# EAGLE library part PIC24FJ1024GA606 (library ICs)
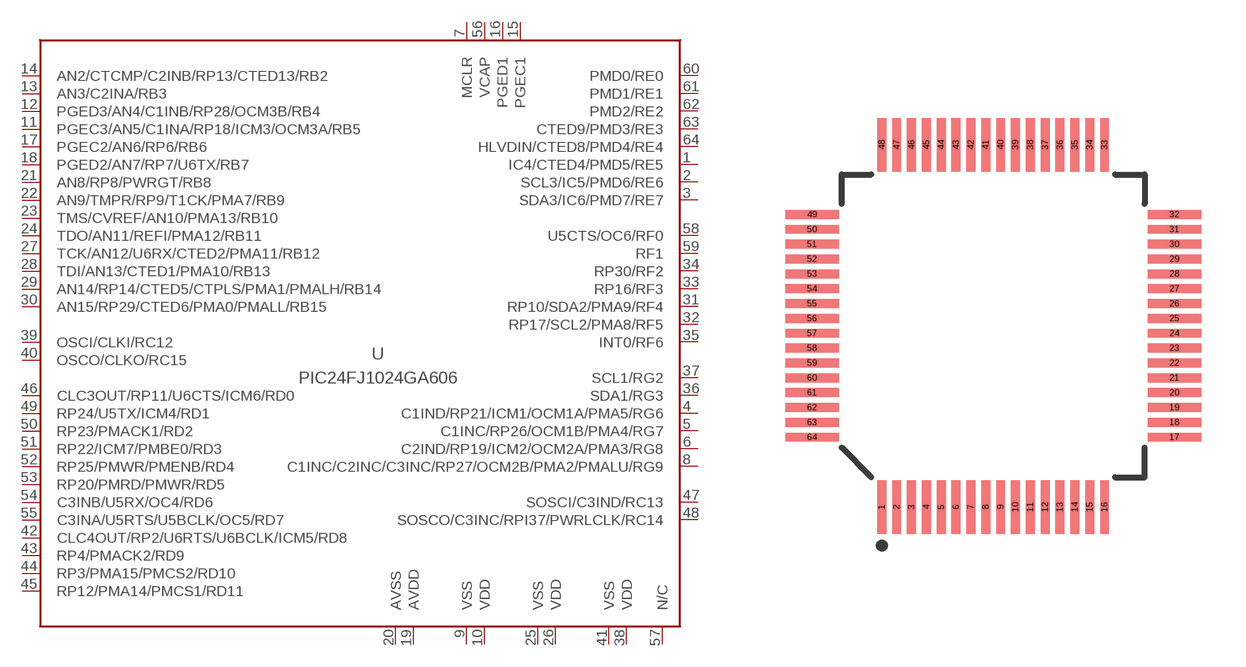
[diagram p8: symbol with the pads of TQFP64; footprint TQFP64]

Designator prefix U

## PIC24FJ1024GA606 (MFG: Microchip; PN: PIC24FJ1024GA606T-I/PT; VALUE: PIC24FJ1024GA606)  [TQFP64]
1  IC4/CTED4/PMD5/RE5
2  SCL3/IC5/PMD6/RE6
3  SDA3/IC6/PMD7/RE7
4  C1IND/RP21/ICM1/OCM1A/PMA5/RG6
5  C1INC/RP26/OCM1B/PMA4/RG7
6  C2IND/RP19/ICM2/OCM2A/PMA3/RG8
7  MCLR
8  C1INC/C2INC/C3INC/RP27/OCM2B/PMA2/PMALU/RG9
9  VSS  pwr
10  VDD  pwr
11  PGEC3/AN5/C1INA/RP18/ICM3/OCM3A/RB5
12  PGED3/AN4/C1INB/RP28/OCM3B/RB4
13  AN3/C2INA/RB3
14  AN2/CTCMP/C2INB/RP13/CTED13/RB2
15  PGEC1
16  PGED1
17  PGEC2/AN6/RP6/RB6
18  PGED2/AN7/RP7/U6TX/RB7
19  AVDD  pwr
20  AVSS  pwr
21  AN8/RP8/PWRGT/RB8
22  AN9/TMPR/RP9/T1CK/PMA7/RB9
23  TMS/CVREF/AN10/PMA13/RB10
24  TDO/AN11/REFI/PMA12/RB11
25  VSS  pwr
26  VDD  pwr
27  TCK/AN12/U6RX/CTED2/PMA11/RB12
28  TDI/AN13/CTED1/PMA10/RB13
29  AN14/RP14/CTED5/CTPLS/PMA1/PMALH/RB14
30  AN15/RP29/CTED6/PMA0/PMALL/RB15
31  RP10/SDA2/PMA9/RF4
32  RP17/SCL2/PMA8/RF5
33  RP16/RF3
34  RP30/RF2
35  INT0/RF6
36  SDA1/RG3
37  SCL1/RG2
38  VDD  pwr
39  OSCI/CLKI/RC12
40  OSCO/CLKO/RC15
41  VSS  pwr
42  CLC4OUT/RP2/U6RTS/U6BCLK/ICM5/RD8
43  RP4/PMACK2/RD9
44  RP3/PMA15/PMCS2/RD10
45  RP12/PMA14/PMCS1/RD11
46  CLC3OUT/RP11/U6CTS/ICM6/RD0
47  SOSCI/C3IND/RC13
48  SOSCO/C3INC/RPI37/PWRLCLK/RC14
49  RP24/U5TX/ICM4/RD1
50  RP23/PMACK1/RD2
51  RP22/ICM7/PMBE0/RD3
52  RP25/PMWR/PMENB/RD4
53  RP20/PMRD/PMWR/RD5
54  C3INB/U5RX/OC4/RD6
55  C3INA/U5RTS/U5BCLK/OC5/RD7
56  VCAP  pas
57  N/C  nc
58  U5CTS/OC6/RF0
59  RF1
60  PMD0/RE0
61  PMD1/RE1
62  PMD2/RE2
63  CTED9/PMD3/RE3
64  HLVDIN/CTED8/PMD4/RE4

## Footprint TQFP64 (pad centres in mm)
64-Lead TQFP Plastic Thin Quad Flatpack - 10x10x1mm Body, 2mmFP
smd 0.3 x 1.8: 1 -3.75,-6.1; 2 -3.25,-6.1; 3 -2.75,-6.1; 4 -2.25,-6.1; 5 -1.75,-6.1; 6 -1.25,-6.1; 7 -0.75,-6.1; 8 -0.25,-6.1; 9 0.25,-6.1; 10 0.75,-6.1; 11 1.25,-6.1; 12 1.75,-6.1; 13 2.25,-6.1; 14 2.75,-6.1; 15 3.25,-6.1; 16 3.75,-6.1; 33 3.75,6.1; 34 3.25,6.1; 35 2.75,6.1; 36 2.25,6.1; 37 1.75,6.1; 38 1.25,6.1; 39 0.75,6.1; 40 0.25,6.1; 41 -0.25,6.1; 42 -0.75,6.1; 43 -1.25,6.1; 44 -1.75,6.1; 45 -2.25,6.1; 46 -2.75,6.1; 47 -3.25,6.1; 48 -3.75,6.1
smd 1.8 x 0.3: 17 6.1,-3.75; 18 6.1,-3.25; 19 6.1,-2.75; 20 6.1,-2.25; 21 6.1,-1.75; 22 6.1,-1.25; 23 6.1,-0.75; 24 6.1,-0.25; 25 6.1,0.25; 26 6.1,0.75; 27 6.1,1.25; 28 6.1,1.75; 29 6.1,2.25; 30 6.1,2.75; 31 6.1,3.25; 32 6.1,3.75; 49 -6.1,3.75; 50 -6.1,3.25; 51 -6.1,2.75; 52 -6.1,2.25; 53 -6.1,1.75; 54 -6.1,1.25; 55 -6.1,0.75; 56 -6.1,0.25; 57 -6.1,-0.25; 58 -6.1,-0.75; 59 -6.1,-1.25; 60 -6.1,-1.75; 61 -6.1,-2.25; 62 -6.1,-2.75; 63 -6.1,-3.25; 64 -6.1,-3.75